# EAGLE library part ATMEGA4809-AFR (library U-AVR)
ATMEGA4809-AFR IC MCU 8BIT 48KB FLASH 48TQFP
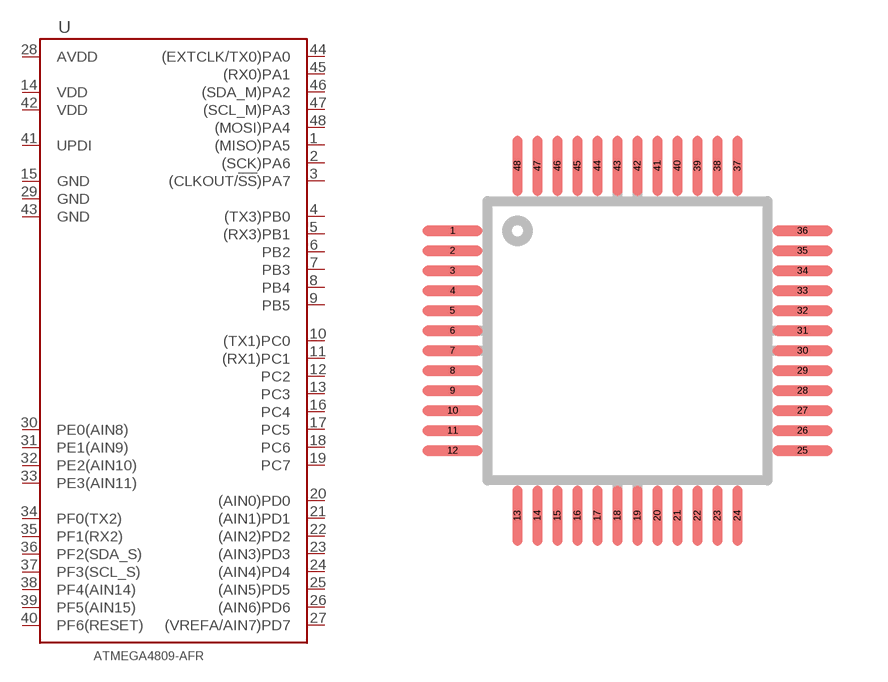
[diagram p17: symbol with the pads of TQFP48; footprint TQFP48]

Designator prefix U

## ATMEGA4809-AFR  [TQFP48]
1  (MISO)PA5
2  (SCK)PA6
3  (CLKOUT/!SS!)PA7
4  (TX3)PB0
5  (RX3)PB1
6  PB2
7  PB3
8  PB4
9  PB5
10  (TX1)PC0
11  (RX1)PC1
12  PC2
13  PC3
14  VDD  pwr
15  GND  pwr
16  PC4
17  PC5
18  PC6
19  PC7
20  (AIN0)PD0
21  (AIN1)PD1
22  (AIN2)PD2
23  (AIN3)PD3
24  (AIN4)PD4
25  (AIN5)PD5
26  (AIN6)PD6
27  (VREFA/AIN7)PD7
28  AVDD  pas
29  GND  pwr
30  PE0(AIN8)
31  PE1(AIN9)
32  PE2(AIN10)
33  PE3(AIN11)
34  PF0(TX2)  pas
35  PF1(RX2)
36  PF2(SDA_S)
37  PF3(SCL_S)
38  PF4(AIN14)
39  PF5(AIN15)
40  PF6(RESET)
41  UPDI
42  VDD  pwr
43  GND  pwr
44  (EXTCLK/TX0)PA0
45  (RX0)PA1
46  (SDA_M)PA2
47  (SCL_M)PA3
48  (MOSI)PA4

## Footprint TQFP48 (pad centres in mm)
LQFP/TQFP 48 L is for Low-profile (1.4 mm) and T is for thin(er, 1.0 mm) note: lead pitch is 0.5mm (on 32pin lead pitch is 0.8mm), every time I look it seems wrong.
smd 1.5 x 0.25: 1 -4.375,2.75; 2 -4.375,2.25; 3 -4.375,1.75; 4 -4.375,1.25; 5 -4.375,0.75; 6 -4.375,0.25; 7 -4.375,-0.25; 8 -4.375,-0.75; 9 -4.375,-1.25; 10 -4.375,-1.75; 11 -4.375,-2.25; 12 -4.375,-2.75; 25 4.375,-2.75; 26 4.375,-2.25; 27 4.375,-1.75; 28 4.375,-1.25; 29 4.375,-0.75; 30 4.375,-0.25; 31 4.375,0.25; 32 4.375,0.75; 33 4.375,1.25; 34 4.375,1.75; 35 4.375,2.25; 36 4.375,2.75
smd 0.25 x 1.5: 13 -2.75,-4.375; 14 -2.25,-4.375; 15 -1.75,-4.375; 16 -1.25,-4.375; 17 -0.75,-4.375; 18 -0.25,-4.375; 19 0.25,-4.375; 20 0.75,-4.375; 21 1.25,-4.375; 22 1.75,-4.375; 23 2.25,-4.375; 24 2.75,-4.375; 37 2.75,4.375; 38 2.25,4.375; 39 1.75,4.375; 40 1.25,4.375; 41 0.75,4.375; 42 0.25,4.375; 43 -0.25,4.375; 44 -0.75,4.375; 45 -1.25,4.375; 46 -1.75,4.375; 47 -2.25,4.375; 48 -2.75,4.375